# Altium footprint library Capacitors_rus.PCBLIB: 349 footprints (part 11 of 22)
Each footprint in its own frame and in the unit in brackets; x right, y up, seen from the top. Pads: shape width x height; smd on the part's side, far side on the other; paste and mask are expansions set on the pad; w line width, h text height; cw(c..) or ccw(c..) is an arc to the next point about the centre after c.
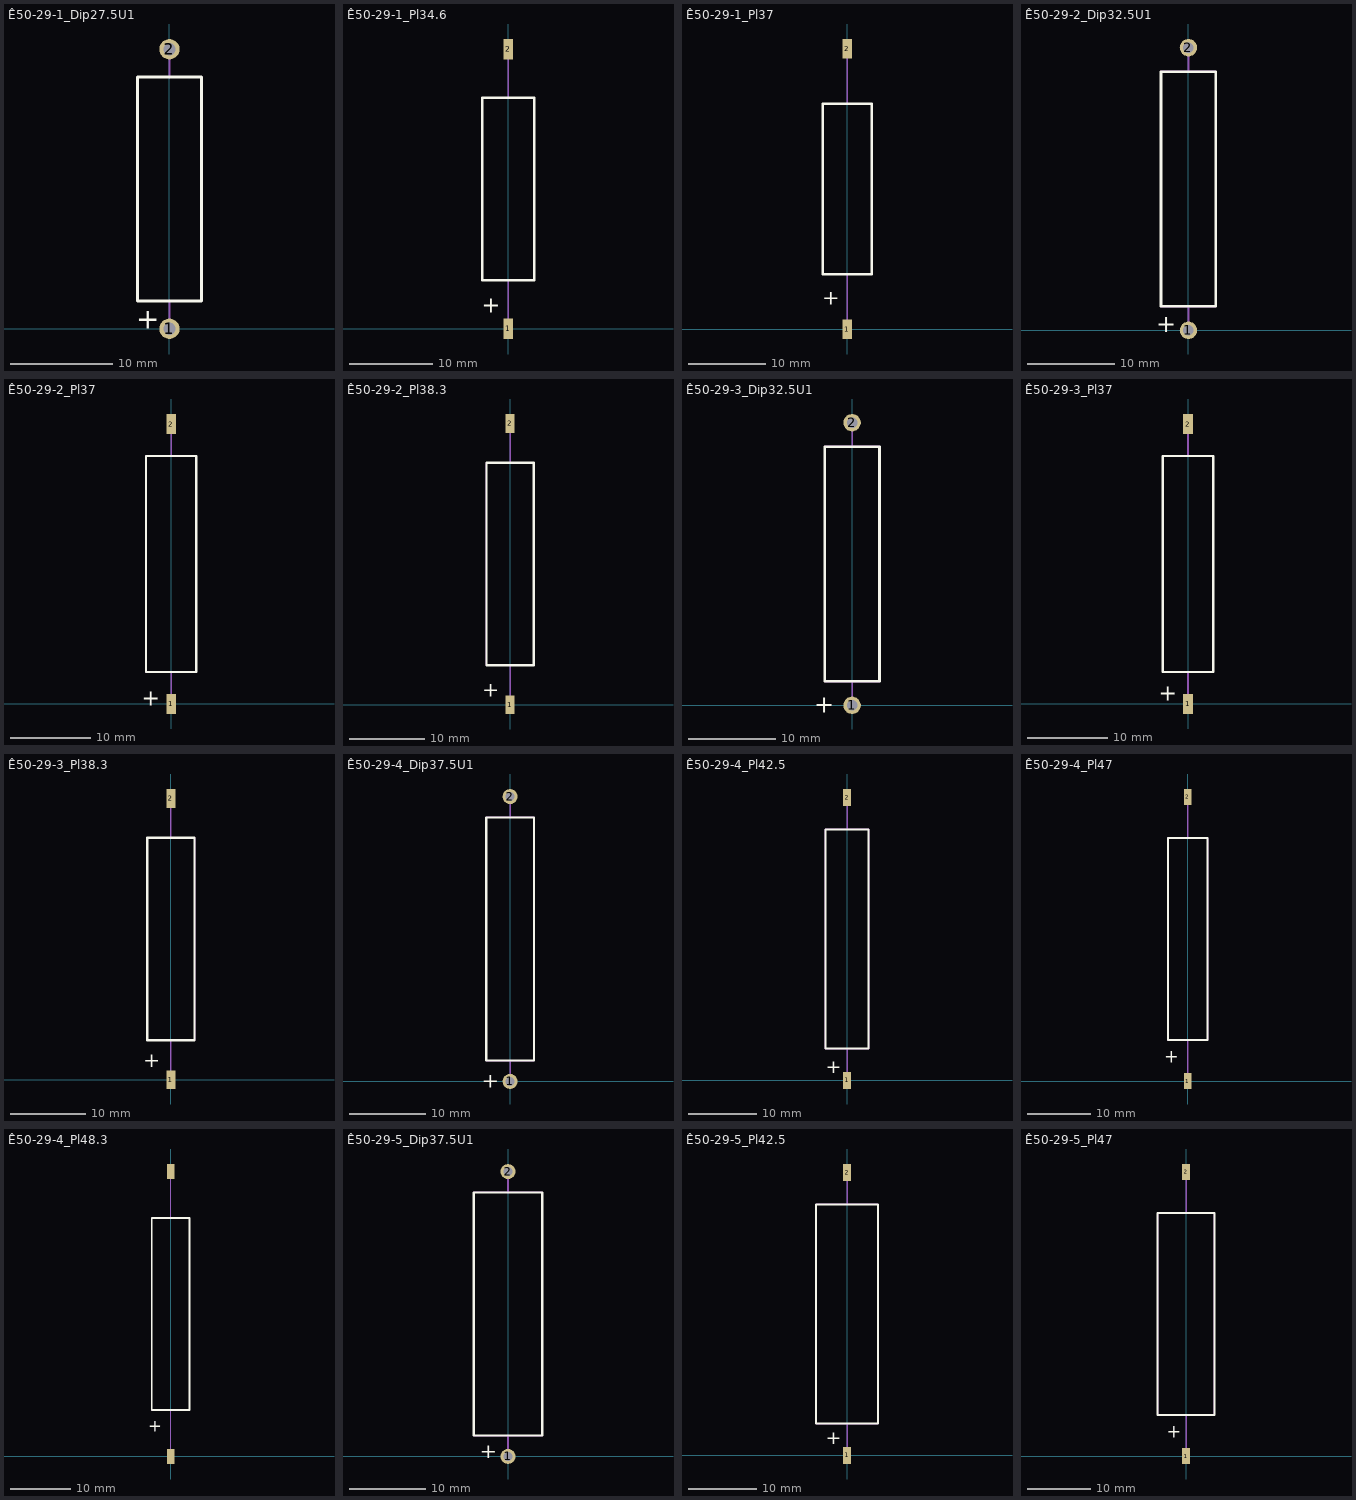
[diagram p10: the footprints below, top view; thin cyan lines are the x and y axes]

## Ê50-29-1_Dip27.5U1 [mm]
height 6.3
pads (2):
  round 2 hole 1.2: 1(0,0) 2(0,27.5)
Top Overlay:
  lines w0.3: 3.15,24.75 3.15,2.75 -3.15,2.75 -3.15,24.75 3.16,24.74
  text "+" at -3.25,0 h2
Mechanical 1:
  lines w0.2: 0,0 0,2.78 ; 0,24.72 0,27.5 ; -3.15,2.75 -3.15,24.75 3.15,24.75 3.15,2.75 -3.15,2.75
  text "+" at -0.25,3.5 h1.5
  text ".Comment" at 2.3,9.1 h1.5
  text ".Designator" at -1.1,10.95 h1.5

## Ê50-29-1_Pl34.6 [mm]
height 6.3
pads (2):
  rect 1.2x2.5 smd: 1(0,0) 2(0,33.75)
Top Overlay:
  lines w0.3: -3.15,5.875 3.15,5.875 3.15,27.875 -3.15,27.875 -3.15,5.875
  text "+" at -3.205,1.895 h2
Mechanical 1:
  lines w0.2: 0,-0.425 0,5.905 ; 0,27.855 0,34.175 ; -3.15,5.875 3.15,5.875 3.15,27.875 -3.15,27.875 -3.15,5.875
  text "+" at -0.25,6.5 h1.5
  text ".Comment" at 2.35,12.6 h1.5
  text ".Designator" at -1.05,14.45 h1.5

## Ê50-29-1_Pl37 [mm]
height 6.3
pads (2):
  rect 1.2x2.5 smd: 1(0,0) 2(0,36.25)
Top Overlay:
  lines w0.3: -3.15,7.125 -3.15,29.125 3.15,29.125 3.15,7.125 -3.15,7.125
  text "+" at -3.205,3.145 h2
Mechanical 1:
  lines w0.2: 0,-0.35 0,7.155 ; 0,29.105 0,36.65 ; -3.15,7.125 -3.15,29.125 3.15,29.125 3.15,7.125 -3.15,7.125
  text ".Designator" at -1.1,15.75 h1.5
  text ".Comment" at 2.3,13.9 h1.5
  text "+" at -0.25,7.75 h1.5

## Ê50-29-2_Dip32.5U1 [mm]
height 6.3
pads (2):
  round 2 hole 1.2: 1(0,0) 2(0,32.5)
Top Overlay:
  lines w0.3: -3.15,2.75 3.15,2.75 3.15,29.75 -3.15,29.75 -3.15,2.75
  text "+" at -3.705,-0.23 h2
Mechanical 1:
  lines w0.2: 0,0 0,2.78 ; 0,29.72 0,32.5 ; 3.15,2.74 3.15,29.75 -3.15,29.75 -3.15,2.75 3.15,2.75
  text ".Designator" at -1.25,14.05 h1.5
  text ".Comment" at 2.15,12.2 h1.5
  text "+" at -0.25,3.5 h1.5

## Ê50-29-2_Pl37 [mm]
height 6.3
pads (2):
  rect 1.2x2.5 smd: 1(0,0) 2(0,35)
Top Overlay:
  lines w0.3: -3.15,4 -3.15,31 3.15,31 3.15,4 -3.15,4
  text "+" at -3.705,-0.23 h2
Mechanical 1:
  lines w0.2: 0,-1 0,4.02 ; 0,30.97 0,36 ; -3.15,4 -3.15,31 3.15,31 3.15,4 -3.15,4
  text ".Designator" at -1.2,15 h1.5
  text ".Comment" at 2.2,13.15 h1.5
  text "+" at -0.25,4.75 h1.5

## Ê50-29-2_Pl38.3 [mm]
height 6.3
pads (2):
  rect 1.2x2.5 smd: 1(0,0) 2(0,37.5)
Top Overlay:
  lines w0.3: -3.15,5.25 3.15,5.25 3.15,32.25 -3.15,32.25 -3.15,5.25
  text "+" at -3.705,1.02 h2
Mechanical 1:
  lines w0.2: 0,-0.4 0,5.27 ; 0,32.22 0,37.9 ; -3.15,5.25 3.15,5.25 3.15,32.25 -3.15,32.25 -3.15,5.25
  text "+" at -0.5,6 h1.5
  text ".Comment" at 2.05,13.95 h1.5
  text ".Designator" at -1.35,15.8 h1.5

## Ê50-29-3_Dip32.5U1 [mm]
height 6.3
pads (2):
  round 2 hole 1.2: 1(0,0) 2(0,32.5)
Top Overlay:
  lines w0.3: -3.15,2.75 3.15,2.75 3.15,29.75 -3.15,29.75 -3.15,2.75
  text "+" at -4.33,-0.855 h2
Mechanical 1:
  lines w0.2: 0,0 0,2.78 ; 0,29.72 0,32.5 ; 3.15,2.74 3.15,29.75 -3.15,29.75 -3.15,2.75 3.15,2.75
  text "+" at -0.25,3.25 h1.5
  text ".Comment" at 2.15,11.5 h1.5
  text ".Designator" at -1.25,13.35 h1.5

## Ê50-29-3_Pl37 [mm]
height 6.3
pads (2):
  rect 1.2x2.5 smd: 1(0,0) 2(0,35)
Top Overlay:
  lines w0.3: -3.15,4 -3.15,31 3.15,31 3.15,4 -3.15,4
  text "+" at -3.656,0.375 h2
Mechanical 1:
  lines w0.2: 0,-1 0,4.02 ; 0,31 0,36 ; -3.15,4 -3.15,31 3.15,31 3.15,4 -3.15,4
  text ".Designator" at -1.25,15.35 h1.5
  text ".Comment" at 2.15,13.5 h1.5
  text "+" at -0.25,4.75 h1.5

## Ê50-29-3_Pl38.3 [mm]
height 6.3
pads (2):
  rect 1.2x2.5 smd: 1(0,0) 2(0,37.5)
Top Overlay:
  lines w0.3: -3.15,5.25 3.15,5.25 3.15,32.25 -3.15,32.25 -3.15,5.25
  text "+" at -3.656,1.625 h2
Mechanical 1:
  lines w0.2: 0,-0.4 0,5.27 ; 0,32.25 0,37.9 ; -3.15,5.25 3.15,5.25 3.15,32.25 -3.15,32.25 -3.15,5.25
  text "+" at -0.25,6 h1.5
  text ".Comment" at 2,14.25 h1.5
  text ".Designator" at -1.4,16.1 h1.5

## Ê50-29-4_Dip37.5U1 [mm]
height 6.3
pads (2):
  round 2 hole 1.2: 1(0,0) 2(0,37.5)
Top Overlay:
  lines w0.3: -3.15,34.75 3.15,34.75 3.15,2.75 -3.15,2.75 -3.14,34.75
  text "+" at -3.705,-0.855 h2
Mechanical 1:
  lines w0.2: 0,0 0,2.78 ; 0,34.73 0,37.5 ; -3.15,2.75 -3.15,34.75 3.15,34.75 3.15,2.75 -3.15,2.75
  text "+" at -0.25,3.5 h1.5
  text ".Comment" at 2,14.3 h1.5
  text ".Designator" at -1.4,16.15 h1.5

## Ê50-29-4_Pl42.5 [mm]
height 6.3
pads (2):
  rect 1.2x2.5 smd: 1(0,0) 2(0,41.25)
Top Overlay:
  lines w0.3: -3.15,4.625 -3.15,36.625 3.15,36.625 3.15,4.625 -3.15,4.625
  text "+" at -3.08,1.02 h2
Mechanical 1:
  lines w0.2: 0,-0.625 0,4.65 ; 0,36.6 0,41.875 ; -3.15,4.625 -3.15,36.625 3.15,36.625 3.15,4.625 -3.15,4.625
  text ".Designator" at -1.1,17.7 h1.5
  text ".Comment" at 2.3,15.85 h1.5
  text "+" at -0.25,5.5 h1.5

## Ê50-29-4_Pl47 [mm]
height 6.3
pads (2):
  rect 1.2x2.5 smd: 1(0,0) 2(0,45)
Top Overlay:
  lines w0.3: -3.15,6.5 -3.15,38.5 3.15,38.5 3.15,6.5 -3.15,6.5
  text "+" at -3.705,2.895 h2
Mechanical 1:
  lines w0.2: 0,-1 0,6.53 ; 0,38.48 0,46 ; -3.15,6.5 -3.15,38.5 3.15,38.5 3.15,6.5 -3.15,6.5
  text ".Designator" at -1.4,19.85 h1.5
  text ".Comment" at 2,18 h1.5
  text "+" at -0.25,7.5 h1.5

## Ê50-29-4_Pl48.3 [mm]
height 6.3
pads (2):
  rect 1.2x2.5 smd: 1(0,0) 2(0,47.5)
Top Overlay:
  lines w0.3: -3.15,7.75 3.15,7.75 3.15,39.75 -3.15,39.75 -3.15,7.75
  text "+" at -3.705,4.145 h2
Mechanical 1:
  lines w0.2: 0,-0.4 0,7.78 ; 0,39.73 0,47.85 ; -3.15,7.75 3.15,7.75 3.15,39.75 -3.15,39.75 -3.15,7.75
  text "+" at -0.25,8.5 h1.5
  text ".Comment" at 2.05,19.4 h1.5
  text ".Designator" at -1.35,21.25 h1.5

## Ê50-29-5_Dip37.5U1 [mm]
height 9
pads (2):
  round 2 hole 1.2: 1(0,0) 2(0,37.5)
Top Overlay:
  lines w0.3: -4.5,2.75 4.5,2.75 4.5,34.75 -4.5,34.75 -4.5,2.75
  text "+" at -3.705,-0.23 h2
Mechanical 1:
  lines w0.2: 0,0 0,2.78 ; 0,34.73 0,37.5 ; -4.5,2.75 4.5,2.75 4.5,34.75 -4.5,34.75 -4.5,2.75
  text ".Designator" at -1.05,15.95 h1.5
  text ".Comment" at 2.35,14.1 h1.5
  text "+" at -0.5,3.75 h1.5

## Ê50-29-5_Pl42.5 [mm]
height 9
pads (2):
  rect 1.2x2.5 smd: 1(0,0) 2(0,41.25)
Top Overlay:
  lines w0.3: -4.5,4.625 -4.5,36.625 4.5,36.625 4.5,4.625 -4.5,4.625
  text "+" at -3.08,1.645 h2
Mechanical 1:
  lines w0.2: 0,-0.625 0,4.65 ; 0,36.6 0,41.875 ; -4.5,4.625 -4.5,36.625 4.5,36.625 4.5,4.625 -4.5,4.625
  text ".Designator" at -1.25,17.95 h1.5
  text ".Comment" at 2.15,16.1 h1.5
  text "+" at -0.25,5.5 h1.5

## Ê50-29-5_Pl47 [mm]
height 9
pads (2):
  rect 1.2x2.5 smd: 1(0,0) 2(0,45)
Top Overlay:
  lines w0.3: -4.5,6.5 -4.5,38.5 4.5,38.5 4.5,6.5 -4.5,6.5
  text "+" at -3.08,2.895 h2
Mechanical 1:
  lines w0.2: 0,-1 0,6.53 ; 0,38.48 0,46 ; -4.5,6.5 -4.5,38.5 4.5,38.5 4.5,6.5 -4.5,6.5
  text ".Designator" at -1.25,19.7 h1.5
  text ".Comment" at 2.15,17.85 h1.5
  text "+" at -0.25,7.5 h1.5